# EAGLE library part IC-24AA014 (library FirePick)
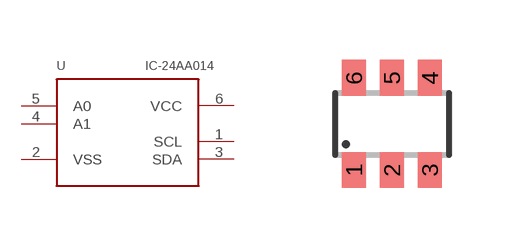
[diagram p11: symbol with the pads of SOT23-6; footprint SOT23-6]

Designator prefix U

## IC-24AA014  [SOT23-6]
1  SCL
2  VSS
3  SDA
4  A1
5  A0
6  VCC

## Footprint SOT23-6 (pad centres in mm)
smd 0.6 x 0.9: 1 -0.95,-1.15; 2 0,-1.15; 3 0.95,-1.15; 4 0.95,1.15; 5 0,1.15; 6 -0.95,1.15